# EAGLE library part AD5258 (library WCSMain)
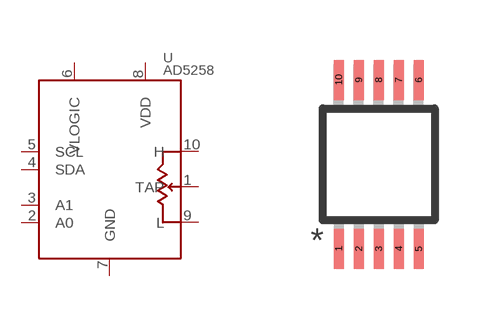
[diagram p16: symbol with the pads of MSOP10; footprint MSOP10]

Designator prefix -

## AD5258  [MSOP10]
1  TAP  pas
2  A0
3  A1
4  SDA
5  SCL
6  VLOGIC  pwr
7  GND  pwr
8  VDD  pwr
9  L  pas
10  H  pas

## Footprint MSOP10 (pad centres in mm)
10-Lead Mini Small Outline Package [MSOP] (RM-10) Source: http://www.analog.com/UploadedFiles/Data_Sheets/35641221898805SSM2167_b.pdf COMPLIANT TO JEDEC STANDARDS MO-187BA
smd 0.25 x 1: 1 -1,-2.113; 2 -0.5,-2.113; 3 0,-2.113; 4 0.5,-2.113; 5 1,-2.113; 6 1,2.113; 7 0.5,2.113; 8 0,2.113; 9 -0.5,2.113; 10 -1,2.113